# Altium footprint library SW_EG1247.PcbLib: 1 footprints
Each footprint in its own frame and in the unit in brackets; x right, y up, seen from the top. Pads: shape width x height; smd on the part's side, far side on the other; paste and mask are expansions set on the pad; w line width, h text height; cw(c..) or ccw(c..) is an arc to the next point about the centre after c.
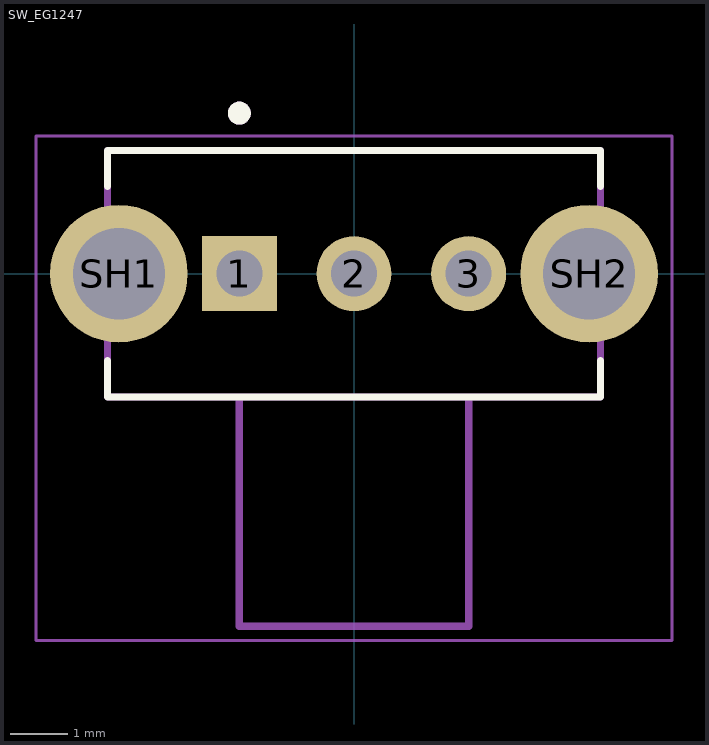
[diagram p0: the footprint, top view; thin cyan lines are the x and y axes]

## SW_EG1247 [mm]
height 4.7
pads (5):
  rect 1.308x1.308 / inner round 1.308 / far side rect 1.308x1.308 hole 0.8: 1(-2,0)
  round 1.308 hole 0.8: 2(0,0) 3(2,0)
  round 2.4 hole 1.6: SH1(-4.1,0) SH2(4.1,0)
Top Overlay:
  circle w0.2: c-2,2.8 r0.1
  lines w0.127: -4.3,-1.52 -4.3,-2.15 4.3,-2.15 4.3,-1.52 ; -4.3,1.52 -4.3,2.15 4.3,2.15 4.3,1.52
Mechanical 13:
  circle w0.2: c-2,2.8 r0.1
  lines w0.127: -2,-2.15 -4.3,-2.15 -4.3,2.15 4.3,2.15 4.3,-2.15 2,-2.15 ; -2,-2.15 2,-2.15 ; -2,-2.15 -2,-6.15 2,-6.15 2,-2.15
Mechanical 15:
  lines w0.05: -5.55,-6.4 -5.55,2.4 5.55,2.4 5.55,-6.4 -5.55,-6.4
3D body "step_temp.STEP": height 4.7, standoff -2.8, extent -4.3,-6.15 4.3,2.15